# Altium footprint library SL_Speakers.PcbLib: 2 footprints
Each footprint in its own frame and in the unit in brackets; x right, y up, seen from the top. Pads: shape width x height; smd on the part's side, far side on the other; paste and mask are expansions set on the pad; w line width, h text height; cw(c..) or ccw(c..) is an arc to the next point about the centre after c.
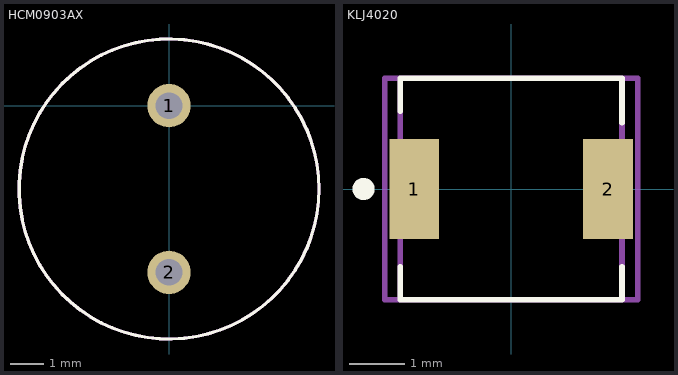
[diagram p0: the footprints below, top view; thin cyan lines are the x and y axes]

## HCM0903AX [mm]
pads (2):
  round 1.3 hole 0.8: 1(0,0) 2(0,-5)
Top Overlay:
  circle w0.1: c0,-2.5 r4.5
Mechanical 13:
  circle w0.1: c0,-2.5 r4.5
Mechanical 15:
  circle w0.1: c0,-2.5 r4.5
3D body "HCM0903AX.stp": height 6.1, standoff -5, extent -4.5,-7 4.5,2

## KLJ4020 [mm]
pads (2):
  rect 0.9x1.8 smd: 1(-1.75,0) 2(1.75,0)
Top Overlay:
  circle w0.2: c-2.667,0 r0.1
  lines w0.1: -2,-1.4 -2,-2 2,-2 2,-1.4 ; -2,1.4 -2,2 2,2 2,1.2
Mechanical 13:
  lines w0.1: -2,-2 -2,2 2,2 2,-2 -2,-2
Mechanical 15:
  lines w0.1: -2.286,-2 -2.286,2 2.286,2 2.286,-2 -2.286,-2
3D body "KLJ-4020.stp": height 2.4, standoff 0, extent -2.11,-2 2.11,2